# Altium footprint library adafruit.PCBLIB: 643 footprints (part 19 of 41)
Each footprint in its own frame and in the unit in brackets; x right, y up, seen from the top. Pads: shape width x height; smd on the part's side, far side on the other; paste and mask are expansions set on the pad; w line width, h text height; cw(c..) or ccw(c..) is an arc to the next point about the centre after c.
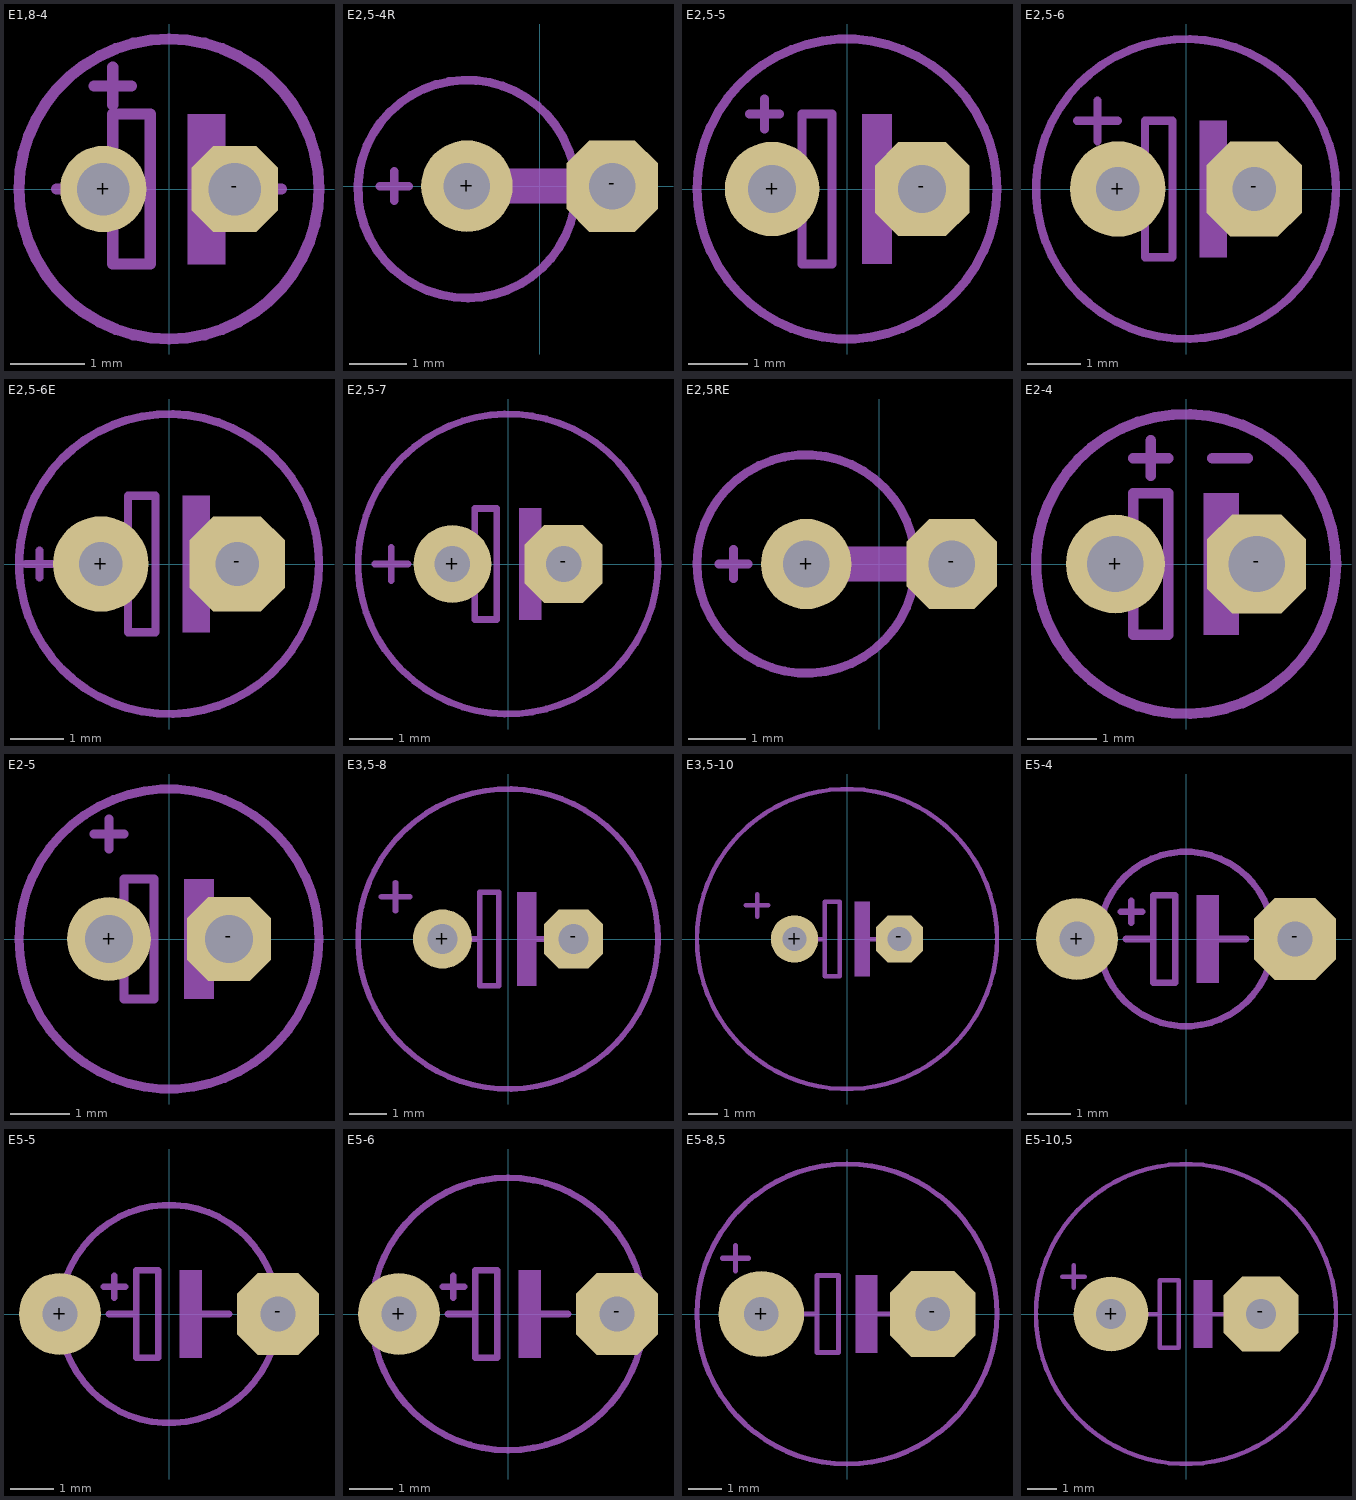
[diagram p18: the footprints below, top view; thin cyan lines are the x and y axes]

## E1,8-4 [mil]
pads (2):
  round 46 hole 28: +(-35,0)
  oct 46x46 / inner round 42.5 / far side oct 46x46 hole 28: -(35,0)
tDocu:
  region: 10,-40 10,40 30,40 30,-40
  lines w6: -60,0 -30,0 ; 25,0 60,0 ; -30,0 -30,-40 -10,-40 -10,40 -30,40 -30,0
tPlace:
  circle w6: c0,0 r80
  lines w6: -40,55 -20,55 ; -30,45 -30,65

## E2,5-4R [mil]
pads (2):
  round 63 hole 32: +(-50,0)
  oct 63x63 / inner round 58.2 / far side oct 63x63 hole 32: -(50,0)
tDocu:
  lines w6: 20,25 cw(c-50,-1.99) 21.27,-25.42
  lines w24: -50,0 50,0
tPlace:
  lines w6: -110,0 -90,0 ; -100,-10 -100,10 ; 20,25 ccw(c-50,-1.99) 21.27,-25.42
  lines w24: -5,0 3,0

## E2,5-5 [mil]
pads (2):
  round 63 hole 32: +(-50,0)
  oct 63x63 / inner round 58.2 / far side oct 63x63 hole 32: -(50,0)
tDocu:
  region: 10,-50 10,50 30,50 30,-50
  lines w6: -65,0 -30,0 ; 25,0 65,0 ; -30,0 -30,-50 -10,-50 -10,50 -30,50 -30,0
tPlace:
  circle w6: c0,0 r100
  lines w6: -65,50 -55,50 ; -55,40 -55,50 ; -55,60 -55,50 ; -45,50 -55,50

## E2,5-6 [mil]
pads (2):
  round 70 hole 32: +(-50,0)
  oct 70x70 / inner round 64.67 / far side oct 70x70 hole 32: -(50,0)
tDocu:
  region: 10,-50 10,50 30,50 30,-50
  lines w6: -65,0 -30,0 ; 25,0 65,0 ; -30,0 -30,-50 -10,-50 -10,50 -30,50 -30,0
tPlace:
  circle w6: c0,0 r110
  lines w6: -80,50 -65,50 ; -65,35 -65,50 ; -65,65 -65,50 ; -50,50 -65,50

## E2,5-6E [mil]
pads (2):
  round 70 hole 32: +(-50,0)
  oct 70x70 / inner round 64.67 / far side oct 70x70 hole 32: -(50,0)
tDocu:
  region: 10,-50 10,50 30,50 30,-50
  lines w6: -65,0 -30,0 ; 25,0 65,0 ; -30,0 -30,-50 -10,-50 -10,50 -30,50 -30,0
tPlace:
  circle w6: c0,0 r110
  lines w6: -105,0 -85,0 ; -95,-10 -95,10

## E2,5-7 [mil]
pads (2):
  round 70 hole 32: +(-50,0)
  oct 70x70 / inner round 64.67 / far side oct 70x70 hole 32: -(50,0)
tDocu:
  region: 10,-50 10,50 30,50 30,-50
  lines w6: -65,0 -30,0 ; 25,0 65,0 ; -30,0 -30,-50 -10,-50 -10,50 -30,50 -30,0
tPlace:
  circle w6: c0,0 r135
  lines w6: -120,0 -90,0 ; -105,-15 -105,15

## E2,5RE [mil]
pads (2):
  round 62 hole 32: +(-50,0)
  oct 62x62 / inner round 57.28 / far side oct 62x62 hole 32: -(50,0)
tDocu:
  lines w6: 10,-45 ccw(c-50,0) 10,45
  lines w24: -50,0 50,0
tPlace:
  lines w6: -110,0 -90,0 ; -100,-10 -100,10 ; 10,-45 cw(c-50,0) 10,45
  lines w24: -5,0 3,0

## E2-4 [mil]
pads (2):
  round 56 hole 32: +(-40,0)
  oct 56x56 / inner round 51.74 / far side oct 56x56 hole 32: -(40,0)
tDocu:
  region: 10,-40 10,40 30,40 30,-40
  lines w6: -60,0 -30,0 ; 25,0 60,0 ; -30,0 -30,-40 -10,-40 -10,40 -30,40 -30,0
tPlace:
  circle w6: c0,0 r85
  lines w6: -30,60 -10,60 ; -20,50 -20,70 ; 15,60 35,60

## E2-5 [mil]
pads (2):
  round 56 hole 32: +(-40,0)
  oct 56x56 / inner round 51.74 / far side oct 56x56 hole 32: -(40,0)
tDocu:
  region: 10,-40 10,40 30,40 30,-40
  lines w6: -60,0 -30,0 ; 25,0 60,0 ; -30,0 -30,-40 -10,-40 -10,40 -30,40 -30,0
tPlace:
  circle w6: c0,0 r100
  lines w6: -50,70 -30,70 ; -40,60 -40,80

## E3,5-8 [mil]
pads (2):
  round 63 hole 32: +(-70,0)
  oct 63x63 / inner round 58.2 / far side oct 63x63 hole 32: -(70,0)
tDocu:
  region: 10,-50 10,50 30,50 30,-50
  lines w6: -65,0 -30,0 ; 25,0 65,0 ; -30,0 -30,-50 -10,-50 -10,50 -30,50 -30,0
tPlace:
  circle w6: c0,0 r160
  lines w6: -135,45 -105,45 ; -120,30 -120,60

## E3,5-10 [mil]
pads (2):
  round 63 hole 32: +(-70,0)
  oct 63x63 / inner round 58.2 / far side oct 63x63 hole 32: -(70,0)
tDocu:
  region: 10,-50 10,50 30,50 30,-50
  lines w6: -65,0 -30,0 ; 25,0 65,0 ; -30,0 -30,-50 -10,-50 -10,50 -30,50 -30,0
tPlace:
  circle w6: c0,0 r200
  lines w6: -135,45 -105,45 ; -120,30 -120,60

## E5-4 [mil]
pads (2):
  round 75 hole 32: +(-100,0)
  oct 75x75 / inner round 69.29 / far side oct 75x75 hole 32: -(100,0)
tDocu:
  lines w6: -66.87,-43.91 cw(c0,0) -66.87,43.91 ; 66.87,-43.91 ccw(c0,0) 66.87,43.91
tPlace:
  region: 10,-40 10,40 30,40 30,-40
  lines w6: -66.87,-43.91 ccw(c0,0) 66.87,-43.91 ; -66.87,43.91 cw(c0,0) 66.87,43.91 ; -60,25 -40,25 ; -55,0 -30,0 ; -50,15 -50,35 ; 25,0 55,0 ; -30,0 -30,-40 -10,-40 -10,40 -30,40 -30,0

## E5-5 [mil]
pads (2):
  round 75 hole 32: +(-100,0)
  oct 75x75 / inner round 69.29 / far side oct 75x75 hole 32: -(100,0)
tDocu:
  lines w6: -84.87,-52.88 cw(c0,0) -84.87,52.88 ; 84.87,-52.88 ccw(c0,0) 84.87,52.88
tPlace:
  region: 10,-40 10,40 30,40 30,-40
  lines w6: -84.87,-52.88 ccw(c0,0) 84.87,-52.88 ; -84.87,52.88 cw(c0,0) 84.87,52.88 ; -60,25 -40,25 ; -55,0 -30,0 ; -50,15 -50,35 ; 25,0 55,0 ; -30,0 -30,-40 -10,-40 -10,40 -30,40 -30,0

## E5-6 [mil]
pads (2):
  round 75 hole 32: +(-100,0)
  oct 75x75 / inner round 69.29 / far side oct 75x75 hole 32: -(100,0)
tDocu:
  lines w6: -113,-53.44 cw(c0,0) -113,53.44 ; 113,-53.44 ccw(c0,0) 113,53.44
tPlace:
  region: 10,-40 10,40 30,40 30,-40
  lines w6: -113,-53.44 ccw(c0,0) 113,-53.44 ; -113,53.44 cw(c0,0) 113,53.44 ; -60,25 -40,25 ; -55,0 -30,0 ; -50,15 -50,35 ; 25,0 55,0 ; -30,0 -30,-40 -10,-40 -10,40 -30,40 -30,0

## E5-8,5 [mil]
pads (2):
  round 100 hole 40: +(-100,0)
  oct 100x100 / inner round 92.39 / far side oct 100x100 hole 40: -(100,0)
tDocu:
  lines w6: -65,0 -45,0 ; 45,0 65,0
tPlace:
  circle w6: c0,0 r175
  region: 10,-45 10,45 35,45 35,-45
  lines w6: -145,65 -115,65 ; -130,50 -130,80 ; -45,0 -35,0 ; 25,0 45,0 ; -35,0 -35,-45 -10,-45 -10,45 -35,45 -35,0

## E5-10,5 [mil]
pads (2):
  round 100 hole 40: +(-100,0)
  oct 100x100 / inner round 92.39 / far side oct 100x100 hole 40: -(100,0)
tDocu:
  lines w6: -65,0 -45,0 ; 45,0 65,0
tPlace:
  circle w6: c0,0 r200
  region: 10,-45 10,45 35,45 35,-45
  lines w6: -165,50 -135,50 ; -150,35 -150,65 ; -45,0 -35,0 ; 25,0 45,0 ; -35,0 -35,-45 -10,-45 -10,45 -35,45 -35,0